# Altium schematic symbol library ST730M33R.SchLib: 1 symbol
Pins are listed as number, name and electrical type; pins without a type are passive.

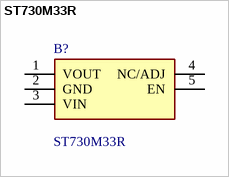
[diagram p0: symbol ST730M33R]

## ST730M33R
designator B?
LDO Voltage Regulators 300 mA 28 V 5 uA quiescent current; Manufacturer_Name: STMicroelectronics; Geometry.Height: 1.45mm; Manufacturer_Part_Number: ST730M33R; Mouser Part Number: 511-ST730M33R; Mouser Price/Stock: https://www.mouser.co.uk/ProductDetail/STMicroelectronics/ST730M33R?qs=GedFDFLaBXHUqSNzaYM2bg%3D%3D; Arrow Part Number: ST730M33R; Arrow Price/Stock: https://www.arrow.com/en/products/st730m33r/stmicroelectronics?region=nac; Datasheet Link: https://www.mouser.at/datasheet/2/389/st730-1621297.pdf
footprint SOT95P280X145-5N
pins: 1 VOUT, 2 GND, 3 VIN, 4 NC/ADJ, 5 EN